# Altium schematic symbol library MSD1278T-223MLD.SchLib: 2 symbols
Pins are listed as number, name and electrical type; pins without a type are passive.

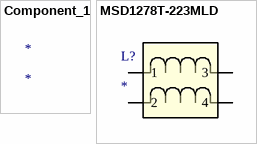
[diagram p0: symbols Component_1 to MSD1278T-223MLD]

## Component_1
designator *

## MSD1278T-223MLD
designator L?
No Description Available; Mfr_Name: Coilcraft; Type: Coupled Inductors
footprint SMD4_MSD1278T_COC
pins: 1, 2, 3, 4